# Altium integrated library TL448K6D-VR_library_rev1p2.IntLib: 2 symbols
Pins are listed as number, name and electrical type; pins without a type are passive.

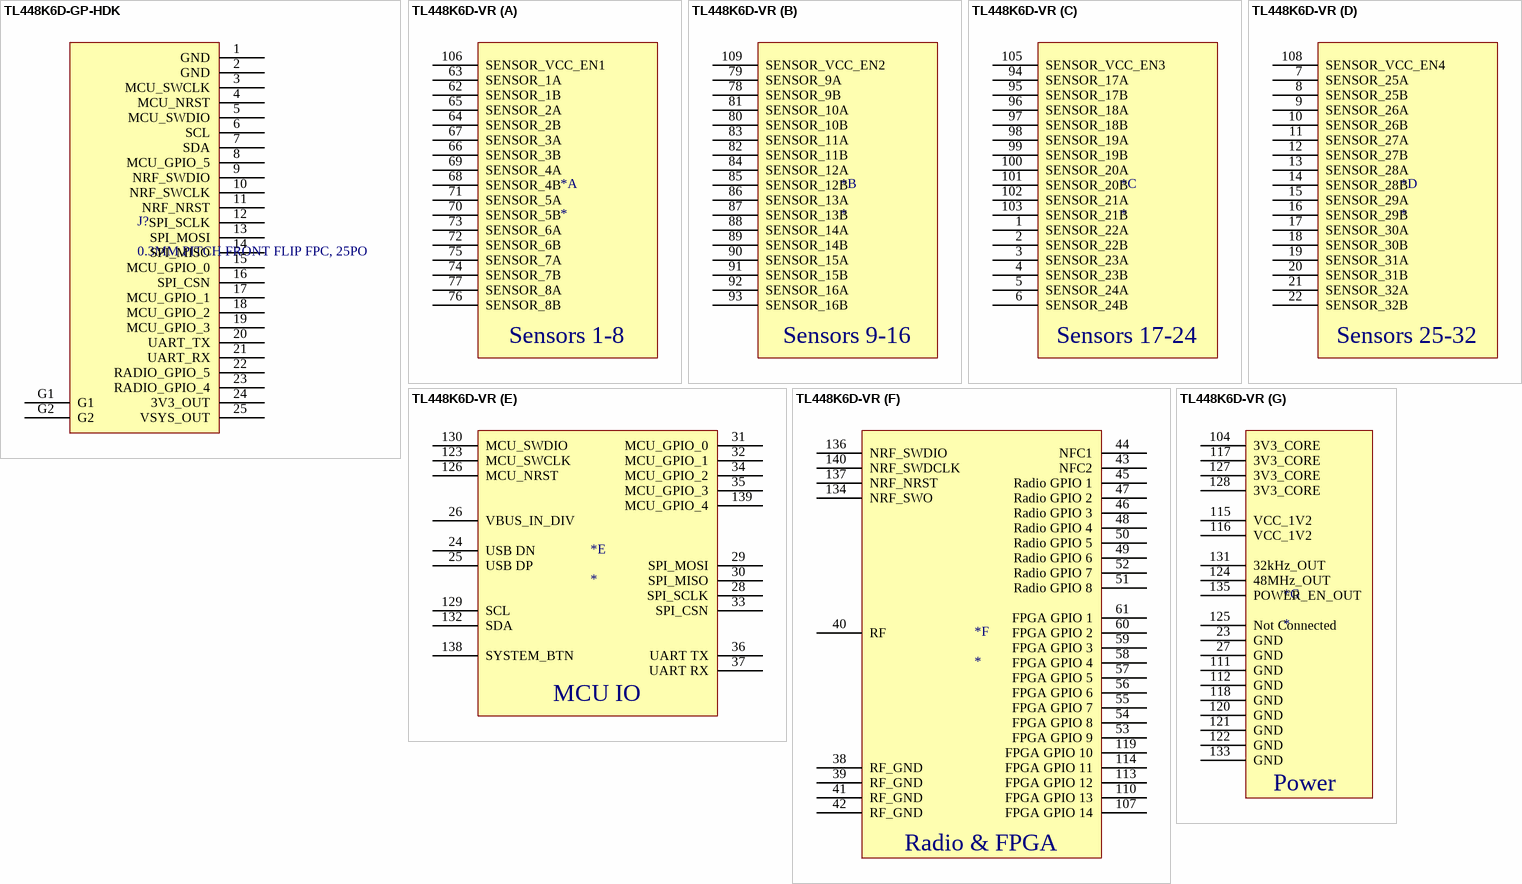
[diagram p0: symbols TL448K6D-GP-HDK to TL448K6D-VR]

## TL448K6D-GP-HDK
designator J?, comment 0.3MM PITCH FRONT FLIP FPC, 25PO
Part Number: 2-2328724-5
footprint 2-2328724-5
pins: 1 GND, 2 GND, 3 MCU_SWCLK, 4 MCU_NRST, 5 MCU_SWDIO, 6 SCL, 7 SDA, 8 MCU_GPIO_5, 9 NRF_SWDIO, 10 NRF_SWCLK, 11 NRF_NRST, 12 SPI_SCLK, 13 SPI_MOSI, 14 SPI_MISO, 15 MCU_GPIO_0, 16 SPI_CSN, 17 MCU_GPIO_1, 18 MCU_GPIO_2, 19 MCU_GPIO_3, 20 UART_TX, 21 UART_RX, 22 RADIO_GPIO_5, 23 RADIO_GPIO_4, 24 3V3_OUT, 25 VSYS_OUT, G1, G2

## TL448K6D-VR
designator *
footprint WatchmanModule_v4
footprint WatchmanModule_v4 - Socket
part A pins: 62 SENSOR_1B, 63 SENSOR_1A, 64 SENSOR_2B, 65 SENSOR_2A, 66 SENSOR_3B, 67 SENSOR_3A, 68 SENSOR_4B, 69 SENSOR_4A, 70 SENSOR_5B, 71 SENSOR_5A, 72 SENSOR_6B, 73 SENSOR_6A, 74 SENSOR_7B, 75 SENSOR_7A, 76 SENSOR_8B, 77 SENSOR_8A, 106 SENSOR_VCC_EN1
part B pins: 78 SENSOR_9B, 79 SENSOR_9A, 80 SENSOR_10B, 81 SENSOR_10A, 82 SENSOR_11B, 83 SENSOR_11A, 84 SENSOR_12A, 85 SENSOR_12B, 86 SENSOR_13A, 87 SENSOR_13B, 88 SENSOR_14A, 89 SENSOR_14B, 90 SENSOR_15A, 91 SENSOR_15B, 92 SENSOR_16A, 93 SENSOR_16B, 109 SENSOR_VCC_EN2
part C pins: 1 SENSOR_22A, 2 SENSOR_22B, 3 SENSOR_23A, 4 SENSOR_23B, 5 SENSOR_24A, 6 SENSOR_24B, 94 SENSOR_17A, 95 SENSOR_17B, 96 SENSOR_18A, 97 SENSOR_18B, 98 SENSOR_19A, 99 SENSOR_19B, 100 SENSOR_20A, 101 SENSOR_20B, 102 SENSOR_21A, 103 SENSOR_21B, 105 SENSOR_VCC_EN3
part D pins: 7 SENSOR_25A, 8 SENSOR_25B, 9 SENSOR_26A, 10 SENSOR_26B, 11 SENSOR_27A, 12 SENSOR_27B, 13 SENSOR_28A, 14 SENSOR_28B, 15 SENSOR_29A, 16 SENSOR_29B, 17 SENSOR_30A, 18 SENSOR_30B, 19 SENSOR_31A, 20 SENSOR_31B, 21 SENSOR_32A, 22 SENSOR_32B, 108 SENSOR_VCC_EN4
part E pins: 24 USB DN, 25 USB DP, 26 VBUS_IN_DIV, 28 SPI_SCLK, 29 SPI_MOSI, 30 SPI_MISO, 31 MCU_GPIO_0, 32 MCU_GPIO_1, 33 SPI_CSN, 34 MCU_GPIO_2, 35 MCU_GPIO_3, 36 UART TX, 37 UART RX, 123 MCU_SWCLK, 126 MCU_NRST, 129 SCL, 130 MCU_SWDIO, 132 SDA, 138 SYSTEM_BTN, 139 MCU_GPIO_4
part F pins: 38 RF_GND, 39 RF_GND, 40 RF, 41 RF_GND, 42 RF_GND, 43 NFC2, 44 NFC1, 45 Radio GPIO 1, 46 Radio GPIO 3, 47 Radio GPIO 2, 48 Radio GPIO 4, 49 Radio GPIO 6, 50 Radio GPIO 5, 51 Radio GPIO 8, 52 Radio GPIO 7, 53 FPGA GPIO 9, 54 FPGA GPIO 8, 55 FPGA GPIO 7, 56 FPGA GPIO 6, 57 FPGA GPIO 5, 58 FPGA GPIO 4, 59 FPGA GPIO 3, 60 FPGA GPIO 2, 61 FPGA GPIO 1, 107 FPGA GPIO 14, 110 FPGA GPIO 13, 113 FPGA GPIO 12, 114 FPGA GPIO 11, 119 FPGA GPIO 10, 134 NRF_SWO, 136 NRF_SWDIO, 137 NRF_NRST, 140 NRF_SWDCLK
part G pins: 23 GND, 27 GND, 104 3V3_CORE, 111 GND, 112 GND, 115 VCC_1V2, 116 VCC_1V2, 117 3V3_CORE, 118 GND, 120 GND, 121 GND, 122 GND, 124 48MHz_OUT, 125 Not Connected, 127 3V3_CORE, 128 3V3_CORE, 131 32kHz_OUT, 133 GND, 135 POWER_EN_OUT
part A text: Sensors 1-8
part B text: Sensors 9-16
part C text: Sensors 17-24
part D text: Sensors 25-32
part E text: MCU IO
part F text: Radio & FPGA
part G text: Power